# EAGLE library part AT91SAM9260B-CU (library atmel-arm)
AT91SAM9260 MCU AT91 ARM-9 Thumb Microcontroller
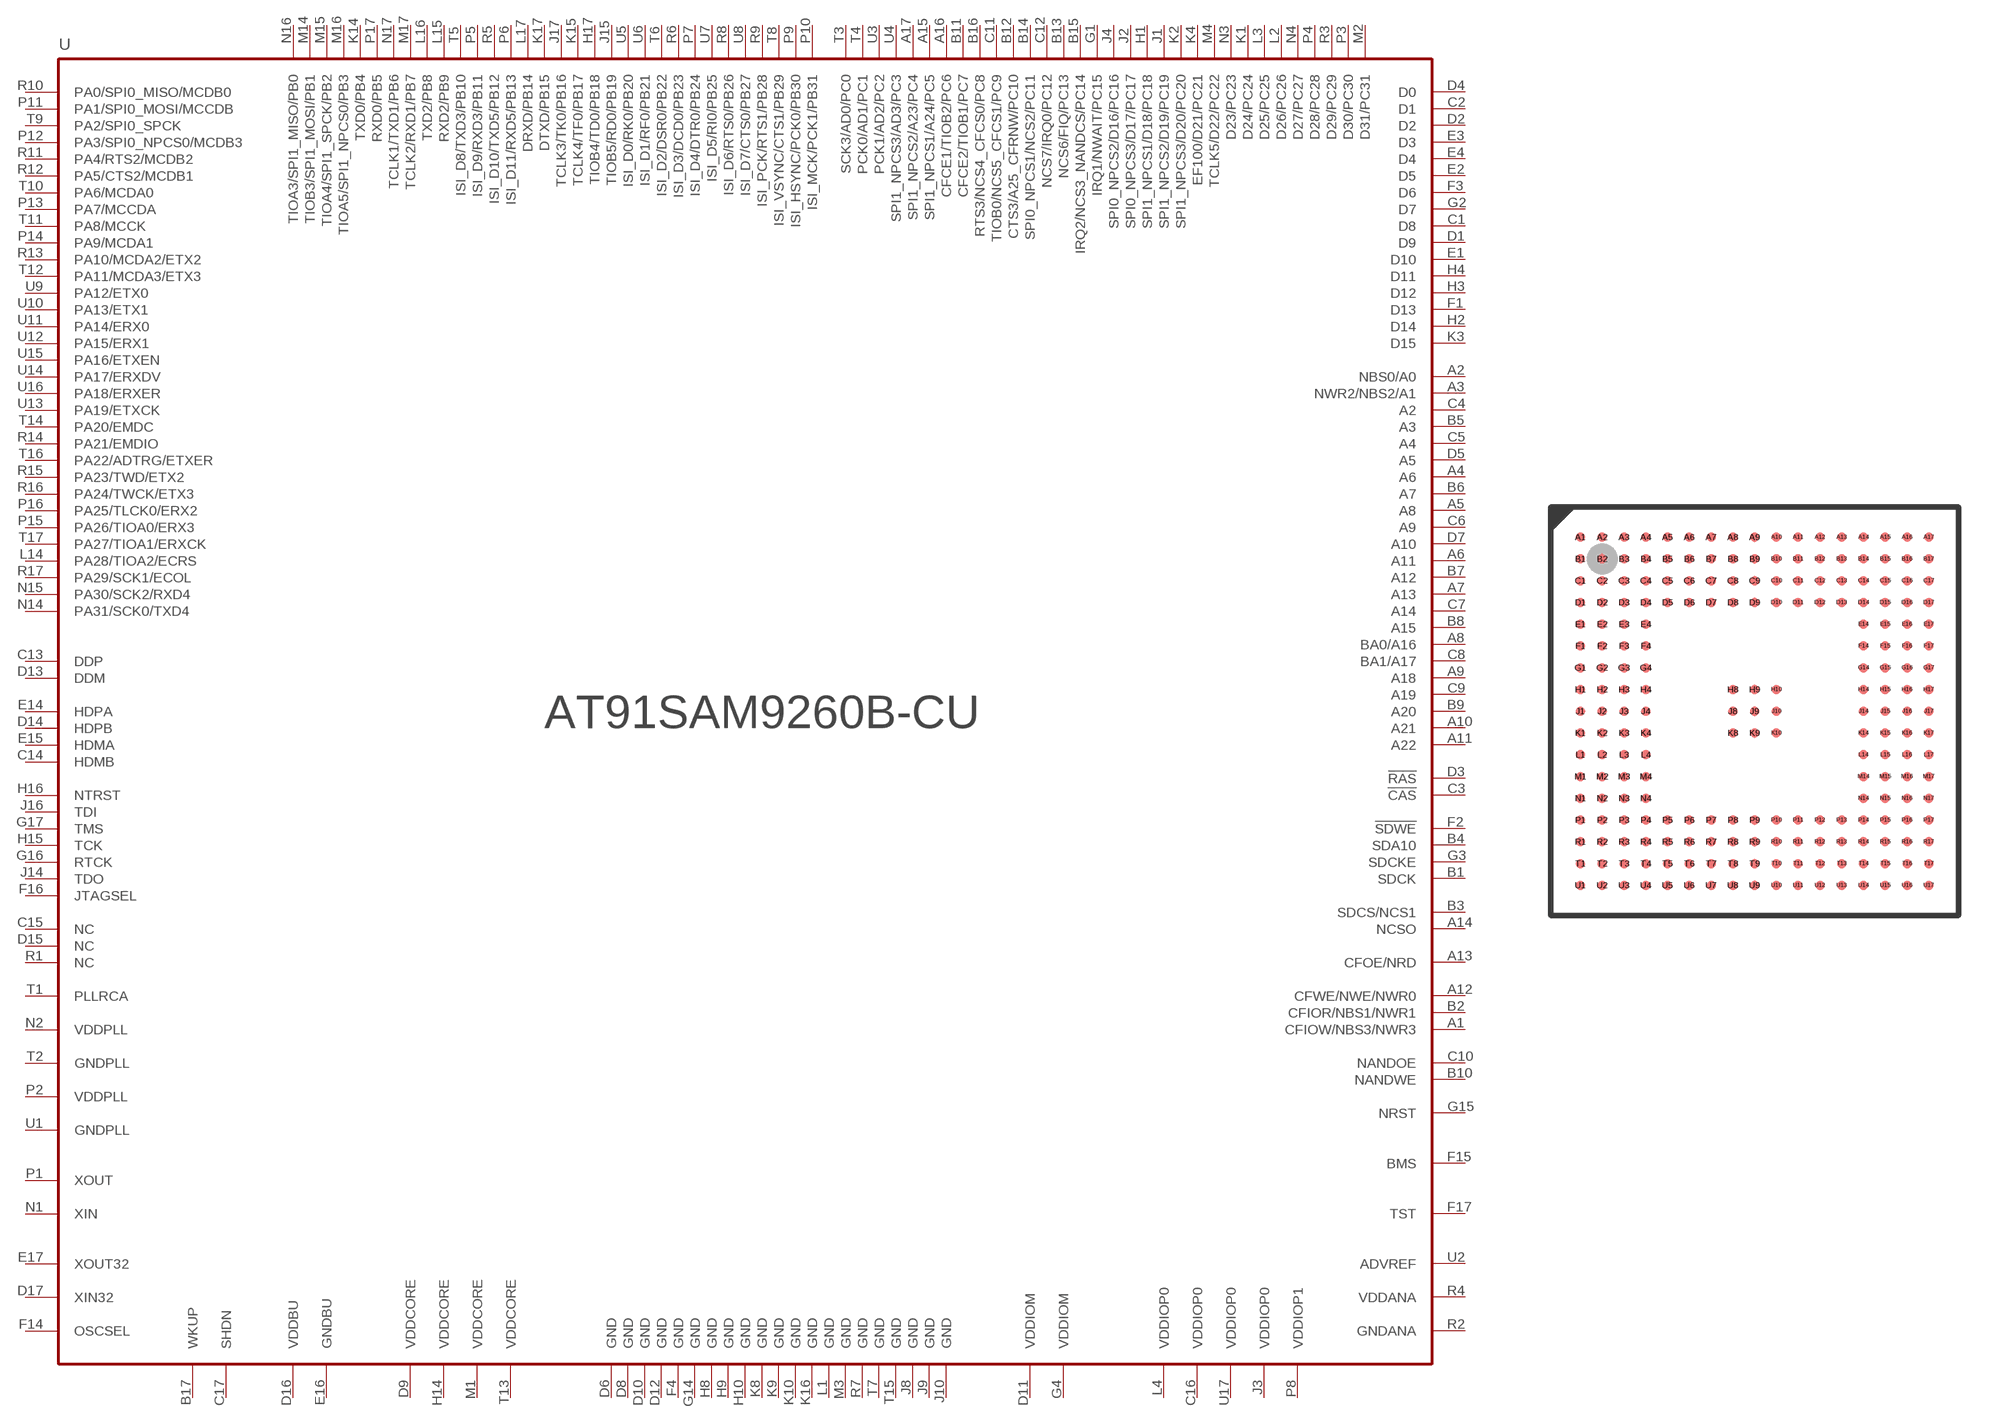
[diagram p7: symbol with the pads of LFBGA217; footprint LFBGA217]

Designator prefix U

## AT91SAM9260B-CU  [LFBGA217]
A1  CFIOW/NBS3/NWR3  out
A2  NBS0/A0
A3  NWR2/NBS2/A1
A4  A6
A5  A8
A6  A11
A7  A13
A8  BA0/A16
A9  A18
A10  A21
A11  A22
A12  CFWE/NWE/NWR0  out
A13  CFOE/NRD  out
A14  NCSO  out
A15  SPI1_NPCS1/A24/PC5
A16  CFCE1/TIOB2/PC6
A17  SPI1_NPCS2/A23/PC4
B1  SDCK  out
B2  CFIOR/NBS1/NWR1  out
B3  SDCS/NCS1  out
B4  SDA10  out
B5  A3
B6  A7
B7  A12
B8  A15
B9  A20
B10  NANDWE  out
B11  CFCE2/TIOB1/PC7
B12  CTS3/A25_CFRNW/PC10
B13  NCS6/FIQ/PC13
B14  SPI0_NPCS1/NCS2/PC11
B15  IRQ2/NCS3_NANDCS/PC14
B16  RTS3/NCS4_CFCS0/PC8
B17  WKUP  in
C1  D8
C2  D1
C3  !CAS  out
C4  A2
C5  A4
C6  A9
C7  A14
C8  BA1/A17
C9  A19
C10  NANDOE  out
C11  TIOB0/NCS5_CFCS1/PC9
C12  NCS7/IRQ0/PC12
C13  DDP
C14  HDMB
C15  NC
C16  VDDIOP0  pwr
C17  SHDN  out
D1  D9
D2  D2
D3  !RAS  out
D4  D0
D5  A5
D6  GND  pwr
D7  A10
D8  GND  pwr
D9  VDDCORE  pwr
D10  GND  pwr
D11  VDDIOM  pwr
D12  GND  pwr
D13  DDM
D14  HDPB
D15  NC  nc
D16  VDDBU  pwr
D17  XIN32  in
E1  D10
E2  D5
E3  D3
E4  D4
E14  HDPA
E15  HDMA
E16  GNDBU  pwr
E17  XOUT32  out
F1  D13
F2  !SDWE  out
F3  D6
F4  GND  pwr
F14  OSCSEL  in
F15  BMS  in
F16  JTAGSEL
F17  TST  in
G1  IRQ1/NWAIT/PC15
G2  D7
G3  SDCKE  out
G4  VDDIOM  pwr
G14  GND  pwr
G15  NRST
G16  RTCK  out
G17  TMS  in
H1  SPI1_NPCS1/D18/PC18
H2  D14
H3  D12
H4  D11
H8  GND  pwr
H9  GND  pwr
H10  GND  pwr
H14  VDDCORE  pwr
H15  TCK  in
H16  NTRST
H17  TIOB4/TD0/PB18
J1  SPI1_NPCS2/D19/PC19
J2  SPI0_NPCS3/D17/PC17
J3  VDDIOP0  pwr
J4  SPI0_NPCS2/D16/PC16
J8  GND
J9  GND
J10  GND
J14  TDO  out
J15  TIOB5/RD0/PB19
J16  TDI  in
J17  TCLK3/TK0/PB16
K1  D24/PC24
K2  SPI1_NPCS3/D20/PC20
K3  D15
K4  EF100/D21/PC21
K8  GND  pwr
K9  GND  pwr
K10  GND  pwr
K14  TXD0/PB4
K15  TCLK4/TF0/PB17
K16  GND  pwr
K17  DTXD/PB15
L1  GND  pwr
L2  D26/PC26
L3  D25/PC25
L4  VDDIOP0  pwr
L14  PA28/TIOA2/ECRS
L15  RXD2/PB9
L16  TXD2/PB8
L17  DRXD/PB14
M1  VDDCORE  pwr
M2  D31/PC31
M3  GND  pwr
M4  TCLK5/D22/PC22
M14  TIOB3/SPI1_MOSI/PB1
M15  TIOA4/SPI1_SPCK/PB2
M16  TIOA5/SPI1_NPCS0/PB3
M17  TCLK2/RXD1/PB7
N1  XIN  in
N2  VDDPLL  pwr
N3  D23/PC23
N4  D27/PC27
N14  PA31/SCK0/TXD4
N15  PA30/SCK2/RXD4
N16  TIOA3/SPI1_MISO/PB0
N17  TCLK1/TXD1/PB6
P1  XOUT  out
P2  VDDPLL  pwr
P3  D30/PC30
P4  D28/PC28
P5  ISI_D9/RXD3/PB11
P6  ISI_D11/RXD5/PB13
P7  ISI_D4/DTR0/PB24
P8  VDDIOP1  pwr
P9  ISI_HSYNC/PCK0/PB30
P10  ISI_MCK/PCK1/PB31
P11  PA1/SPI0_MOSI/MCCDB
P12  PA3/SPI0_NPCS0/MCDB3
P13  PA7/MCCDA
P14  PA9/MCDA1
P15  PA26/TIOA0/ERX3
P16  PA25/TLCK0/ERX2
P17  RXD0/PB5
R1  NC
R2  GNDANA  pwr
R3  D29/PC29
R4  VDDANA  pwr
R5  ISI_D10/TXD5/PB12
R6  ISI_D3/DCD0/PB23
R7  GND  pwr
R8  ISI_D6/RTS0/PB26
R9  ISI_PCK/RTS1/PB28
R10  PA0/SPI0_MISO/MCDB0
R11  PA4/RTS2/MCDB2
R12  PA5/CTS2/MCDB1
R13  PA10/MCDA2/ETX2
R14  PA21/EMDIO
R15  PA23/TWD/ETX2
R16  PA24/TWCK/ETX3
R17  PA29/SCK1/ECOL
T1  PLLRCA  in
T2  GNDPLL  pwr
T3  SCK3/AD0/PC0
T4  PCK0/AD1/PC1
T5  ISI_D8/TXD3/PB10
T6  ISI_D2/DSR0/PB22
T7  GND  pwr
T8  ISI_VSYNC/CTS1/PB29
T9  PA2/SPI0_SPCK
T10  PA6/MCDA0
T11  PA8/MCCK
T12  PA11/MCDA3/ETX3
T13  VDDCORE  pwr
T14  PA20/EMDC
T15  GND  pwr
T16  PA22/ADTRG/ETXER
T17  PA27/TIOA1/ERXCK
U1  GNDPLL  pwr
U2  ADVREF
U3  PCK1/AD2/PC2
U4  SPI1_NPCS3/AD3/PC3
U5  ISI_D0/RK0/PB20
U6  ISI_D1/RF0/PB21
U7  ISI_D5/RI0/PB25
U8  ISI_D7/CTS0/PB27
U9  PA12/ETX0
U10  PA13/ETX1
U11  PA14/ERX0
U12  PA15/ERX1
U13  PA19/ETXCK
U14  PA17/ERXDV
U15  PA16/ETXEN
U16  PA18/ERXER
U17  VDDIOP0  pwr

## Footprint LFBGA217 (pad centres in mm)
smd 0.35 x 0.35: A1 -6.4,6.4; A2 -5.6,6.4; A3 -4.8,6.4; A4 -4,6.4; A5 -3.2,6.4; A6 -2.4,6.4; A7 -1.6,6.4; A8 -0.8,6.4; A9 0,6.4; A10 0.8,6.4; A11 1.6,6.4; A12 2.4,6.4; A13 3.2,6.4; A14 4,6.4; A15 4.8,6.4; A16 5.6,6.4; A17 6.4,6.4; B1 -6.4,5.6; B2 -5.6,5.6; B3 -4.8,5.6; B4 -4,5.6; B5 -3.2,5.6; B6 -2.4,5.6; B7 -1.6,5.6; B8 -0.8,5.6; B9 0,5.6; B10 0.8,5.6; B11 1.6,5.6; B12 2.4,5.6; B13 3.2,5.6; B14 4,5.6; B15 4.8,5.6; B16 5.6,5.6; B17 6.4,5.6; C1 -6.4,4.8; C2 -5.6,4.8; C3 -4.8,4.8; C4 -4,4.8; C5 -3.2,4.8; C6 -2.4,4.8; C7 -1.6,4.8; C8 -0.8,4.8; C9 0,4.8; C10 0.8,4.8; C11 1.6,4.8; C12 2.4,4.8; C13 3.2,4.8; C14 4,4.8; C15 4.8,4.8; C16 5.6,4.8; C17 6.4,4.8; D1 -6.4,4; D2 -5.6,4; D3 -4.8,4; D4 -4,4; D5 -3.2,4; D6 -2.4,4; D7 -1.6,4; D8 -0.8,4; D9 0,4; D10 0.8,4; D11 1.6,4; D12 2.4,4; D13 3.2,4; D14 4,4; D15 4.8,4; D16 5.6,4; D17 6.4,4; E1 -6.4,3.2; E2 -5.6,3.2; E3 -4.8,3.2; E4 -4,3.2; E14 4,3.2; E15 4.8,3.2; E16 5.6,3.2; E17 6.4,3.2; F1 -6.4,2.4; F2 -5.6,2.4; F3 -4.8,2.4; F4 -4,2.4; F14 4,2.4; F15 4.8,2.4; F16 5.6,2.4; F17 6.4,2.4; G1 -6.4,1.6; G2 -5.6,1.6; G3 -4.8,1.6; G4 -4,1.6; G14 4,1.6; G15 4.8,1.6; G16 5.6,1.6; G17 6.4,1.6; H1 -6.4,0.8; H2 -5.6,0.8; H3 -4.8,0.8; H4 -4,0.8; H8 -0.8,0.8; H9 0,0.8; H10 0.8,0.8; H14 4,0.8; H15 4.8,0.8; H16 5.6,0.8; H17 6.4,0.8; J1 -6.4,0; J2 -5.6,0; J3 -4.8,0; J4 -4,0; J8 -0.8,0; J9 0,0; J10 0.8,0; J14 4,0; J15 4.8,0; J16 5.6,0; J17 6.4,0; K1 -6.4,-0.8; K2 -5.6,-0.8; K3 -4.8,-0.8; K4 -4,-0.8; K8 -0.8,-0.8; K9 0,-0.8; K10 0.8,-0.8; K14 4,-0.8; K15 4.8,-0.8; K16 5.6,-0.8; K17 6.4,-0.8; L1 -6.4,-1.6; L2 -5.6,-1.6; L3 -4.8,-1.6; L4 -4,-1.6; L14 4,-1.6; L15 4.8,-1.6; L16 5.6,-1.6; L17 6.4,-1.6; M1 -6.4,-2.4; M2 -5.6,-2.4; M3 -4.8,-2.4; M4 -4,-2.4; M14 4,-2.4; M15 4.8,-2.4; M16 5.6,-2.4; M17 6.4,-2.4; N1 -6.4,-3.2; N2 -5.6,-3.2; N3 -4.8,-3.2; N4 -4,-3.2; N14 4,-3.2; N15 4.8,-3.2; N16 5.6,-3.2; N17 6.4,-3.2; P1 -6.4,-4; P2 -5.6,-4; P3 -4.8,-4; P4 -4,-4; P5 -3.2,-4; P6 -2.4,-4; P7 -1.6,-4; P8 -0.8,-4; P9 0,-4; P10 0.8,-4; P11 1.6,-4; P12 2.4,-4; P13 3.2,-4; P14 4,-4; P15 4.8,-4; P16 5.6,-4; P17 6.4,-4; R1 -6.4,-4.8; R2 -5.6,-4.8; R3 -4.8,-4.8; R4 -4,-4.8; R5 -3.2,-4.8; R6 -2.4,-4.8; R7 -1.6,-4.8; R8 -0.8,-4.8; R9 0,-4.8; R10 0.8,-4.8; R11 1.6,-4.8; R12 2.4,-4.8; R13 3.2,-4.8; R14 4,-4.8; R15 4.8,-4.8; R16 5.6,-4.8; R17 6.4,-4.8; T1 -6.4,-5.6; T2 -5.6,-5.6; T3 -4.8,-5.6; T4 -4,-5.6; T5 -3.2,-5.6; T6 -2.4,-5.6; T7 -1.6,-5.6; T8 -0.8,-5.6; T9 0,-5.6; T10 0.8,-5.6; T11 1.6,-5.6; T12 2.4,-5.6; T13 3.2,-5.6; T14 4,-5.6; T15 4.8,-5.6; T16 5.6,-5.6; T17 6.4,-5.6; U1 -6.4,-6.4; U2 -5.6,-6.4; U3 -4.8,-6.4; U4 -4,-6.4; U5 -3.2,-6.4; U6 -2.4,-6.4; U7 -1.6,-6.4; U8 -0.8,-6.4; U9 0,-6.4; U10 0.8,-6.4; U11 1.6,-6.4; U12 2.4,-6.4; U13 3.2,-6.4; U14 4,-6.4; U15 4.8,-6.4; U16 5.6,-6.4; U17 6.4,-6.4